# EAGLE library part 3220-10-0300-00 (library johnmamish-cnctech)
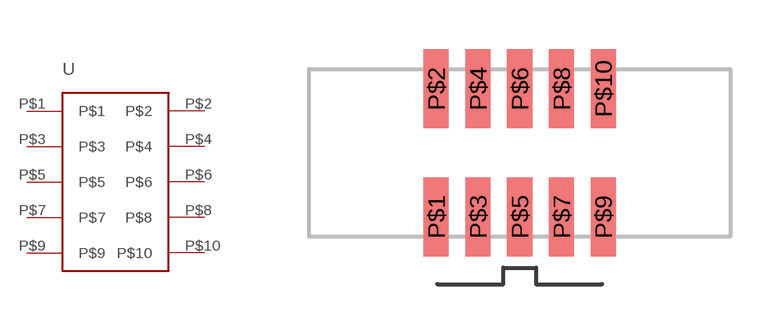
[diagram p0: symbol with the pads of 3220-10-0300-00; footprint 3220-10-0300-00]

Designator prefix -

## 3220-10-0300-00  [3220-10-0300-00]
P$1  P$1
P$2  P$2
P$3  P$3
P$4  P$4
P$5  P$5
P$6  P$6
P$7  P$7
P$8  P$8
P$9  P$9
P$10  P$10

## Footprint 3220-10-0300-00 (pad centres in mm)
smd 0.76 x 2.4: P$1 -2.54,-1.95; P$2 -2.54,1.95; P$3 -1.27,-1.95; P$4 -1.27,1.95; P$5 0,-1.95; P$6 0,1.95; P$7 1.27,-1.95; P$8 1.27,1.95; P$9 2.54,-1.95; P$10 2.54,1.95